# Altium schematic symbol library SARA-G450.SchLib: 1 symbol
Pins are listed as number, name and electrical type; pins without a type are passive.

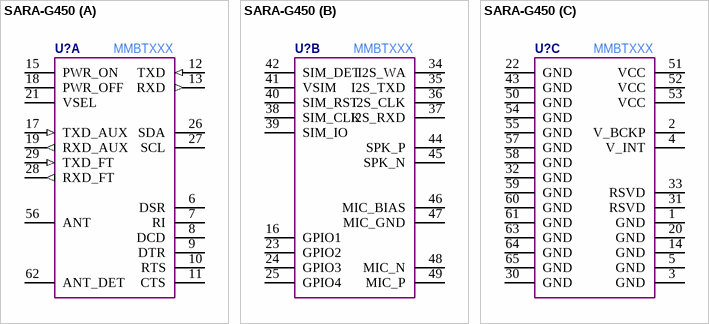
[diagram p0: symbol SARA-G450]

## SARA-G450
designator U?  Manufacturer Part Number: MMBTXXX  (hidden comment: *)
part A pins: 6 DSR, 7 RI, 8 DCD, 9 DTR, 10 RTS, 11 CTS, 12 TXD (in), 13 RXD (out), 15 PWR_ON, 17 TXD_AUX (in), 18 PWR_OFF, 19 RXD_AUX (out), 21 VSEL, 26 SDA, 27 SCL, 28 RXD_FT (out), 29 TXD_FT (in), 56 ANT, 62 ANT_DET
part B pins: 16 GPIO1, 23 GPIO2, 24 GPIO3, 25 GPIO4, 34 I2S_WA, 35 I2S_TXD, 36 I2S_CLK, 37 I2S_RXD, 38 SIM_CLK, 39 SIM_IO, 40 SIM_RST, 41 VSIM, 42 SIM_DET, 44 SPK_P, 45 SPK_N, 46 MIC_BIAS, 47 MIC_GND, 48 MIC_N, 49 MIC_P
part C pins: 1 GND, 2 V_BCKP, 3 GND, 4 V_INT, 5 GND, 14 GND, 20 GND, 22 GND, 30 GND, 31 RSVD, 32 GND, 33 RSVD, 43 GND, 50 GND, 51 VCC, 52 VCC, 53 VCC, 54 GND, 55 GND, 57 GND, 58 GND, 59 GND, 60 GND, 61 GND, 63 GND, 64 GND, 65 GND